# EAGLE library part SCANTOOL (library geoffculp)
STN1110 - Multiprotocol OBD II to UART Interpreter, QFN Package Change Log Date Author Change Aug 23, 2010 vit@scantool.net Created device
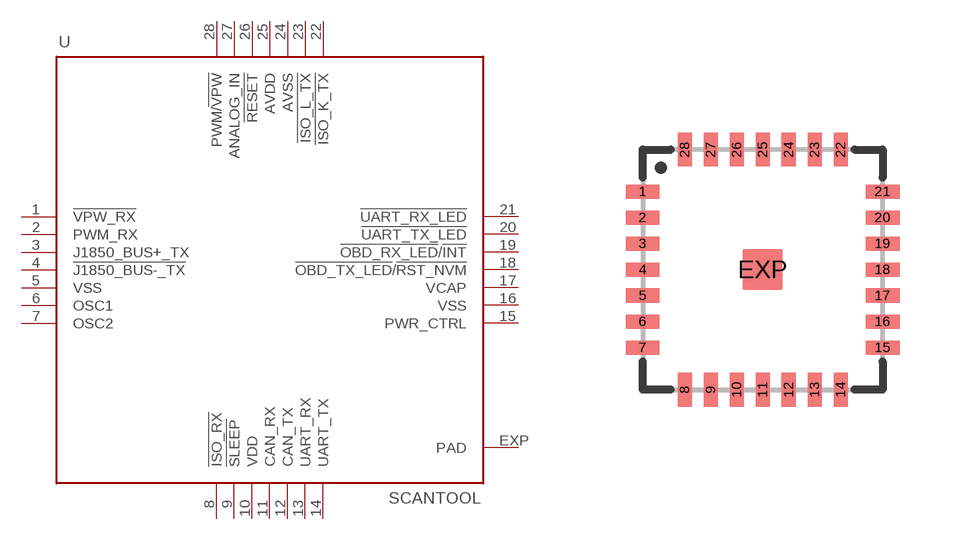
[diagram p329: symbol with the pads of _STN_SCANTOOL_QFN-28-S; footprint _STN_SCANTOOL_QFN-28-S]

Designator prefix U

## SCANTOOL  [_STN_SCANTOOL_QFN-28-S]
1  !VPW_RX  in
2  PWM_RX  in
3  J1850_BUS+_TX  out
4  !J1850_BUS-_TX  out
5  VSS  pwr
6  OSC1  in
7  OSC2  out
8  !ISO_RX  in
9  !SLEEP  in
10  VDD  pwr
11  CAN_RX  in
12  CAN_TX  out
13  UART_RX  in
14  UART_TX  out
15  PWR_CTRL  out
16  VSS  pwr
17  VCAP  pwr
18  !OBD_TX_LED!/!RST_NVM
19  !OBD_RX_LED!/!INT  out
20  !UART_TX_LED  out
21  !UART_RX_LED  out
22  !ISO_K_TX  out
23  !ISO_L_TX  out
24  AVSS  pwr
25  AVDD  pwr
26  !RESET  in
27  ANALOG_IN  in
28  PWM/!VPW  out
EXP  PAD  pas

## Footprint _STN_SCANTOOL_QFN-28-S (pad centres in mm)
Quad Flat No Leads package, 28 pin Change Log Date Author Change March 23, 2010 joe@scantool.net Added t-keepout layer. March 22, 2010 engineering@scantool.net Resized per PIC24HJ64GPx02 (QFN-S) datasheet. Fixed tStop and tCream layers. Redesigned silkscreen. March 17, 2010 vitaliy@scantool.net Verified package. March 17, 2010 jason@scantool.net Increased silkscreen ratio. March 02, 2010 jason@scantool.net Copied from Microchip Library.
smd 0.85 x 0.35: 1 -3,1.95; 2 -3,1.3; 3 -3,0.65; 4 -3,0; 5 -3,-0.65; 6 -3,-1.3; 7 -3,-1.95; 15 3,-1.95; 16 3,-1.3; 17 3,-0.65; 18 3,0; 19 3,0.65; 20 3,1.3; 21 3,1.95
smd 0.35 x 0.85: 8 -1.95,-3; 9 -1.3,-3; 10 -0.65,-3; 11 0,-3; 12 0.65,-3; 13 1.3,-3; 14 1.95,-3; 22 1.95,3; 23 1.3,3; 24 0.65,3; 25 0,3; 26 -0.65,3; 27 -1.3,3; 28 -1.95,3
smd 1 x 1: EXP 0,0